# Altium footprint library 2121_Robot3Roues1.PcbLib: 39 footprints (part 2 of 3)
Each footprint in its own frame and in the unit in brackets; x right, y up, seen from the top. Pads: shape width x height; smd on the part's side, far side on the other; paste and mask are expansions set on the pad; w line width, h text height; cw(c..) or ccw(c..) is an arc to the next point about the centre after c.
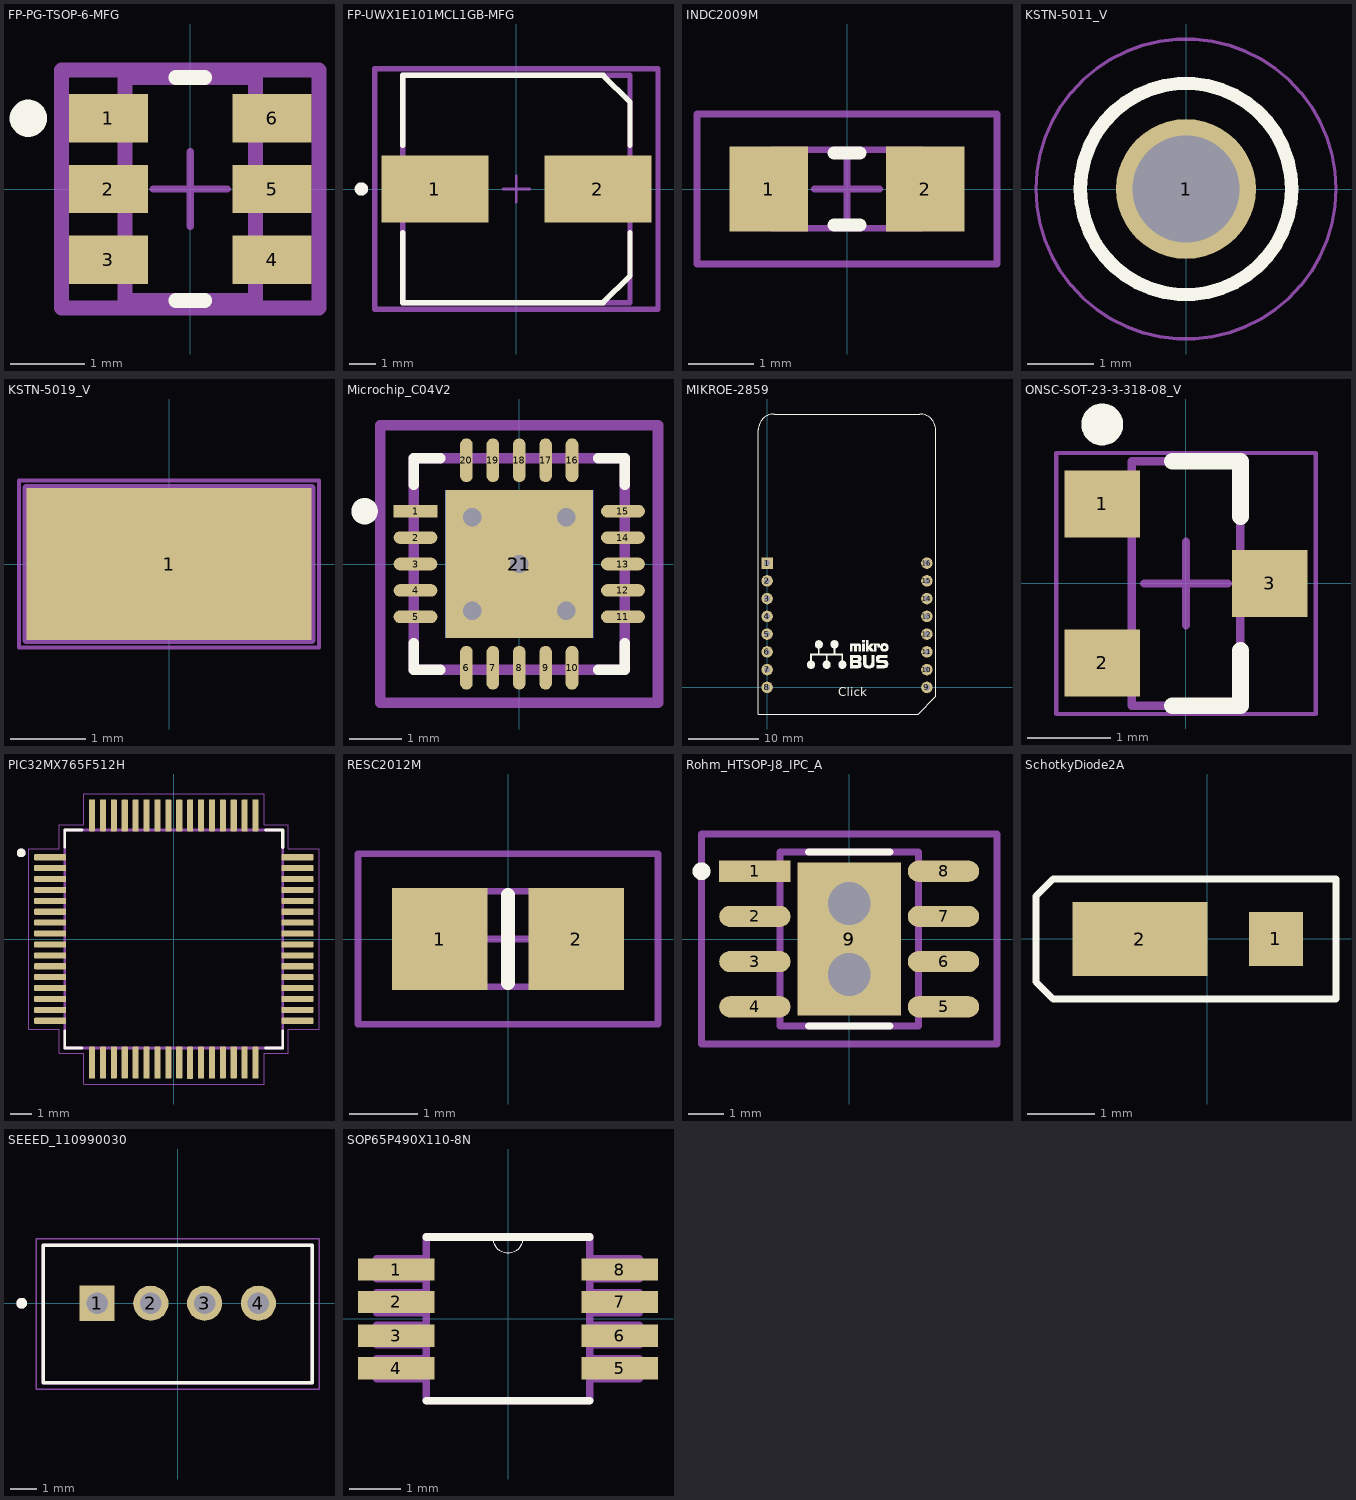
[diagram p1: the footprints below, top view; thin cyan lines are the x and y axes]

## FP-PG-TSOP-6-MFG [mm]
pads (6):
  rect 1.06x0.65 smd paste+0 mask+0: 1(-1.1,0.95) 2(-1.1,0) 3(-1.1,-0.95) 4(1.1,-0.95) 5(1.1,0) 6(1.1,0.95)
Top Overlay:
  circle w0.25: c-2.175,0.95 r0.125
  lines w0.2: -0.195,-1.5 0.195,-1.5 ; -0.195,1.5 0.195,1.5
Top 3D Body:
  lines w0.2: -0.875,-1.5 -0.875,1.5 0.875,1.5 0.875,-1.5 -0.875,-1.5
Top Courtyard:
  lines w0.2: -1.73,-1.6 -1.73,1.6 1.73,1.6 1.73,-1.6 -1.73,-1.6
Top Assembly:
  lines w0.2: -1.73,-1.6 -1.73,1.6 1.73,1.6 1.73,-1.6 -1.73,-1.6
  text ".Designator" at 0,0.188 h1
Top Component Center:
  lines w0.1: -0.5,0 0.5,0 ; 0,-0.5 0,0.5
3D body "Trans_Infineon_IRLTS2242TRPBF_eec.STEP": height 1.45, standoff 0, extent -1.4,-1.45 1.4,1.45

## FP-UWX1E101MCL1GB-MFG [mm]
pads (2):
  rect 4x2.5 smd paste+0 mask+0: 1(-3.05,0) 2(3.05,0)
Top Overlay:
  circle w0.25: c-5.8,0 r0.125
  lines w0.2: -4.25,-1.625 -4.25,-4.25 3.25,-4.25 4.25,-3.25 4.25,-1.625 ; -4.25,1.625 -4.25,4.25 3.25,4.25 4.25,3.25 4.25,1.625
Top 3D Body:
  lines w0.2: -4.25,-4.25 -4.25,4.25 4.25,4.25 4.25,-4.25 -4.25,-4.25
Top Courtyard:
  lines w0.2: -5.3,-4.5 -5.3,4.5 5.3,4.5 5.3,-4.5 -5.3,-4.5
Top Assembly:
  lines w0.2: -5.3,-4.5 -5.3,4.5 5.3,4.5 5.3,-4.5 -5.3,-4.5
  text ".Designator" at 0,0.188 h1
Top Component Center:
  lines w0.1: -0.5,0 0.5,0 ; 0,-0.5 0,0.5
3D body "Cap_Nichicon_UWX1E101MCL1GB_eec.STEP": height 0.25, standoff 0, extent -5.3,-4.5 5.3,4.5

## INDC2009M [mm] "Chip Inductor, Body 2.0x0.9mm, IPC Low Density"
height 1.2
pads (2):
  rect 1.2x1.3 smd: 1(-1.2,0) 2(1.2,0)
Top Overlay:
  lines w0.2: -0.2,-0.55 0.2,-0.55 ; -0.2,0.55 0.2,0.55
Mechanical 13:
  lines w0.1: -1.15,-0.6 1.15,-0.6 1.15,0.6 -1.15,0.6 -1.15,-0.6
Mechanical 15:
  lines w0.1: -0.5,0 0.5,0 ; 0,-0.5 0,0.5 ; -2.3,-1.15 2.3,-1.15 2.3,1.15 -2.3,1.15 -2.3,-1.15
3D body: height 1.2, standoff 0, extent -1.15,-0.6 1.15,0.6

## KSTN-5011_V [mm] "Test Point, Dia 3.17mm"
height 8.28
pads (1):
  round 2.1 hole 1.6: 1(0,0)
Top Overlay:
  circle w0.2: c0,0 r1.585
Mechanical 13:
  circle w0.1: c0,0 r1.585
Mechanical 15:
  circle w0.05: c0,0 r2.25
  lines w0.1: -0.5,0 0.5,0 ; 0,-0.5 0,0.5
3D body "keystone-PN5011.STEP": height 8.13, standoff -3.17, extent -1.587,-1.587 1.588,1.588

## KSTN-5019_V [mm] "Test Point, 1-Leads, Body 3.81x2.03mm"
height 2.42
pads (1):
  rect 3.8x2.03 smd: 1(0,0)
Mechanical 13:
  lines w0.1: -1.905,-1.015 -1.905,1.015 1.905,1.015 1.905,-1.015 -1.905,-1.015
Mechanical 15:
  lines w0.05: -2,-1.115 2,-1.115 2,1.115 -2,1.115 -2,-1.115
  lines w0.1: -0.5,0 0.5,0 ; 0,-0.5 0,0.5
3D body "keystone-PN5019.STEP": height 2.29, standoff 0, extent -1.905,-1.015 1.905,1.017

## Microchip_C04V2 [mm]
pads (22):
  rect 0.829x0.239 smd paste+0 mask+0: 1(-1.965,1)
  rrect100% 0.829x0.239 smd paste+0 mask+0: 2(-1.965,0.5) 3(-1.965,0) 4(-1.965,-0.5) 5(-1.965,-1) 11(1.965,-1) 12(1.965,-0.5) 13(1.965,0) 14(1.965,0.5) 15(1.965,1)
  rrect100% 0.239x0.829 smd paste+0 mask+0: 6(-1,-1.965) 7(-0.5,-1.965) 8(0,-1.965) 9(0.5,-1.965) 10(1,-1.965) 16(1,1.965) 17(0.5,1.965) 18(0,1.965) 19(-0.5,1.965) 20(-1,1.965)
  rect 2.8x2.8 smd paste-1000 mask+0: 21(0,0)
  rect 2.8x2.8 smd far side paste-1000 mask+0: 21(0,0)
via 0.889,-0.889 diameter 0.75 hole 0.35
via -0.889,0.889 diameter 0.75 hole 0.35
via 0.889,0.889 diameter 0.75 hole 0.35
via -0.889,-0.889 diameter 0.75 hole 0.35
via 0,0 diameter 0.75 hole 0.35
Top Overlay:
  circle w0.25: c-2.929,1 r0.125
  lines w0.2: -2,-1.5 -2,-2 -1.5,-2 ; -2,1.5 -2,2 -1.5,2 ; 1.5,-2 2,-2 2,-1.5 ; 1.5,2 2,2 2,1.5
Top Paste:
  rectangle: -0.885,-0.885 0.885,0.885
Top Courtyard:
  lines w0.2: -2.629,-2.629 2.629,-2.629 2.629,2.629 -2.629,2.629 -2.629,-2.629
  text ".Designator" at 0,0.188 h1
Mechanical 12:
  lines w0.2: -2,-2 2,-2 2,2 -2,2 -2,-2
Mechanical 15:
  lines w0.1: -0.5,0 0.5,0 ; 0,-0.5 0,0.5
  lines w0.2: -2.629,-2.629 2.629,-2.629 2.629,2.629 -2.629,2.629 -2.629,-2.629
3D body "IC_Microchip_MCP73871T-2CCI-ML_eec.STEP": height 1, standoff 0, extent -2,-2 2,2

## MIKROE-2859 [mil]
pads (16):
  rect 65x65 hole 35: 1(0,700)
  round 65 hole 35: 2(0,600) 3(0,500) 4(0,400) 5(0,300) 6(0,200) 7(0,100) 8(0,0) 9(900,0) 10(900,100) 11(900,200) 12(900,300) 13(900,400) 14(900,500) 15(900,600) 16(900,700)
Top Overlay:
  drawing of 2432 lines, arcs and shapes, not listed
  text "Click" at 400,-50 h50
3D body "step_temp.STEP": height 340, standoff -398.04, extent -57.96,-150 957.48,1540

## ONSC-SOT-23-3-318-08_V [mm] "SOT23, 3-Leads, Body 2.92x1.3mm, Pitch 0.95mm"
height 1.11
pads (3):
  rect 0.9x0.8 smd: 1(-1,0.95) 2(-1,-0.95) 3(1,0)
Top Overlay:
  circle w0.25: c-1,1.9 r0.125
  lines w0.2: -0.165,-1.46 0.65,-1.46 0.65,-0.8 ; -0.165,1.46 0.65,1.46 0.65,0.8
Mechanical 13:
  lines w0.1: -0.65,-1.46 0.65,-1.46 0.65,1.46 -0.65,1.46 -0.65,-1.46
Mechanical 15:
  lines w0.05: -1.55,-1.56 1.55,-1.56 1.55,1.56 -1.55,1.56 -1.55,-1.56
  lines w0.1: -0.5,0 0.5,0 ; 0,-0.5 0,0.5
3D body: height 1.11, standoff 0.01, extent -0.65,-1.46 0.65,1.46

## PCBComponent_1 [mm]

## PCBComponent_1 - duplicate [mm]

## PIC32MX765F512H [mm]
pads (64):
  rrect30% 1.47x0.28 smd: 1(-5.67,3.75) 2(-5.67,3.25) 3(-5.67,2.75) 4(-5.67,2.25) 5(-5.67,1.75) 6(-5.67,1.25) 7(-5.67,0.75) 8(-5.67,0.25) 9(-5.67,-0.25) 10(-5.67,-0.75) 11(-5.67,-1.25) 12(-5.67,-1.75) 13(-5.67,-2.25) 14(-5.67,-2.75) 15(-5.67,-3.25) 16(-5.67,-3.75) 33(5.67,-3.75) 34(5.67,-3.25) 35(5.67,-2.75) 36(5.67,-2.25) 37(5.67,-1.75) 38(5.67,-1.25) 39(5.67,-0.75) 40(5.67,-0.25) 41(5.67,0.25) 42(5.67,0.75) 43(5.67,1.25) 44(5.67,1.75) 45(5.67,2.25) 46(5.67,2.75) 47(5.67,3.25) 48(5.67,3.75)
  rrect30% 0.28x1.47 smd: 17(-3.75,-5.67) 18(-3.25,-5.67) 19(-2.75,-5.67) 20(-2.25,-5.67) 21(-1.75,-5.67) 22(-1.25,-5.67) 23(-0.75,-5.67) 24(-0.25,-5.67) 25(0.25,-5.67) 26(0.75,-5.677) 27(1.25,-5.67) 28(1.75,-5.67) 29(2.25,-5.67) 30(2.75,-5.67) 31(3.25,-5.67) 32(3.75,-5.67) 49(3.75,5.67) 50(3.25,5.67) 51(2.75,5.67) 52(2.25,5.67) 53(1.75,5.67) 54(1.25,5.67) 55(0.75,5.67) 56(0.25,5.67) 57(-0.25,5.67) 58(-0.75,5.67) 59(-1.25,5.67) 60(-1.75,5.67) 61(-2.25,5.67) 62(-2.75,5.67) 63(-3.25,5.67) 64(-3.75,5.67)
Top Overlay:
  circle w0.2: c-7,3.95 r0.1
  lines w0.127: -5,-4.21 -5,-5 -4.21,-5 ; -5,4.21 -5,5 -4.21,5 ; 4.21,-5 5,-5 5,-4.21
  lines w0.152: 4.21,5 5,5 5,4.21
Mechanical 13:
  circle w0.2: c-7,3.95 r0.1
  lines w0.127: -5,-5 5,-5 5,5 -5,5 -5,-5
Mechanical 15:
  lines w0.05: -6.66,-4.14 -5.25,-4.14 -5.25,-5.25 -4.14,-5.25 -4.14,-6.66 4.14,-6.66 4.14,-5.25 5.25,-5.25 5.25,-4.14 6.66,-4.14 6.66,4.14 5.25,4.14 5.25,5.25 4.14,5.25 4.14,6.66 -4.14,6.66 -4.14,5.25 -5.25,5.25 -5.25,4.14 -6.66,4.14 -6.66,-4.14

## RESC2012M [mm] "Chip Resistor, Body 2.0x1.3mm, IPC Low Density"
height 0.65
pads (2):
  rect 1.4x1.5 smd: 1(-1,0) 2(1,0)
Top Overlay:
  lines w0.2: 0,-0.65 0,0.65
Mechanical 13:
  lines w0.1: -1.075,-0.7 -1.075,0.7 1.075,0.7 1.075,-0.7 -1.075,-0.7
Mechanical 15:
  lines w0.1: -0.5,0 0.5,0 ; 0,-0.5 0,0.5 ; -2.2,-1.25 -2.2,1.25 2.2,1.25 2.2,-1.25 -2.2,-1.25
3D body: height 0.65, standoff 0, extent -1.075,-0.7 1.075,0.7

## Rohm_HTSOP-J8_IPC_A [mm]
pads (10):
  rect 2.005x0.594 smd paste+0 mask+0: 1(-2.65,1.905)
  rrect100% 2.005x0.594 smd paste+0 mask+0: 2(-2.65,0.635) 3(-2.65,-0.635) 4(-2.65,-1.905) 5(2.65,-1.905) 6(2.65,-0.635) 7(2.65,0.635) 8(2.65,1.905)
  rect 2.9x4.3 smd paste-1000 mask+0: 9(0,0)
  rect 2.4x3.2 smd far side paste-1000 mask+0: 9(0,0)
via 0,-1 diameter 2 hole 1.2
via 0,1 diameter 2 hole 1.2
Top Overlay:
  circle w0.25: c-4.153,1.905 r0.125
  lines w0.2: -1.148,-2.45 1.148,-2.45 ; -1.148,2.45 1.148,2.45
Top Paste:
  rectangle: -0.699,-1.099 0.699,1.099
Top Courtyard:
  lines w0.2: -4.153,-2.95 -4.153,2.95 4.153,2.95 4.153,-2.95 -4.153,-2.95
  text ".Designator" at 0,0.188 h1
Mechanical 12:
  lines w0.2: -1.95,-2.45 -1.95,2.45 1.95,2.45 1.95,-2.45 -1.95,-2.45
Mechanical 15:
  lines w0.1: -0.5,0 0.5,0 ; 0,-0.5 0,0.5
  lines w0.2: -4.153,-2.95 -4.153,2.95 4.153,2.95 4.153,-2.95 -4.153,-2.95
3D body "IC_Rohm_BD62120AEFJ-E2_eec.STEP": height 0.25, standoff 0, extent -4.153,-2.95 4.153,2.95

## SchotkyDiode2A [mm]
pads (2):
  rect 0.8x0.8 smd: 1(1.016,0)
  rect 2x1.1 smd: 2(-1,0)
Top Overlay:
  lines w0.1: -2.54,-0.635 -2.54,0.635 -2.286,0.889 1.905,0.889 1.905,-0.889 -2.286,-0.889 -2.54,-0.635

## SEEED_110990030 [mm]
pads (4):
  rect 1.308x1.308 hole 0.8: 1(-3,0)
  round 1.308 hole 0.8: 2(-1,0) 3(1,0) 4(3,0)
Top Overlay:
  circle w0.2: c-5.8,0 r0.1
  lines w0.127: -5,-2.95 5,-2.95 5,2.15 -5,2.15 -5,-2.95
Mechanical 13:
  circle w0.2: c-5.8,0 r0.1
  lines w0.127: -5,-2.95 5,-2.95 5,2.15 -5,2.15 -5,-2.95
Mechanical 15:
  lines w0.05: -5.25,-3.2 5.25,-3.2 5.25,2.4 -5.25,2.4 -5.25,-3.2

## SOP65P490X110-8N [mil]
pads (8):
  rect 59x17 smd: 1(-86,38) 2(-86,13) 3(-86,-13) 4(-86,-38) 5(86,-38) 6(86,-13) 7(86,13) 8(86,38)
Top Overlay:
  lines w0: -12,63 ccw(c0,63) 12,63
  lines w6: -63,-63 63,-63 ; -63,63 -12,63 12,63 63,63
Mechanical 13:
  lines w0: -12,63 ccw(c0,63) 12,63
  lines w6: -101,-46 -101,-31 -63,-31 -63,-46 -101,-46 ; -101,-20 -101,-5 -63,-5 -63,-20 -101,-20 ; -101,5 -101,20 -63,20 -63,5 -101,5 ; -101,31 -101,46 -63,46 -63,31 -101,31 ; -63,-63 63,-63 63,63 12,63 -12,63 -63,63 -63,-63 ; 63,-46 63,-31 101,-31 101,-46 63,-46 ; 63,-20 63,-5 101,-5 101,-20 63,-20 ; 63,5 63,20 101,20 101,5 63,5 ; 63,31 63,46 101,46 101,31 63,31